# EAGLE library part MSP430G2553IRHB32R (library MSP430fr24333)
MSP430G2x53, MSP430G2x13 Mixed Signal Microcontroller Source: Datasheet <http://www.ti.com/lit/gpn/msp430g2553>
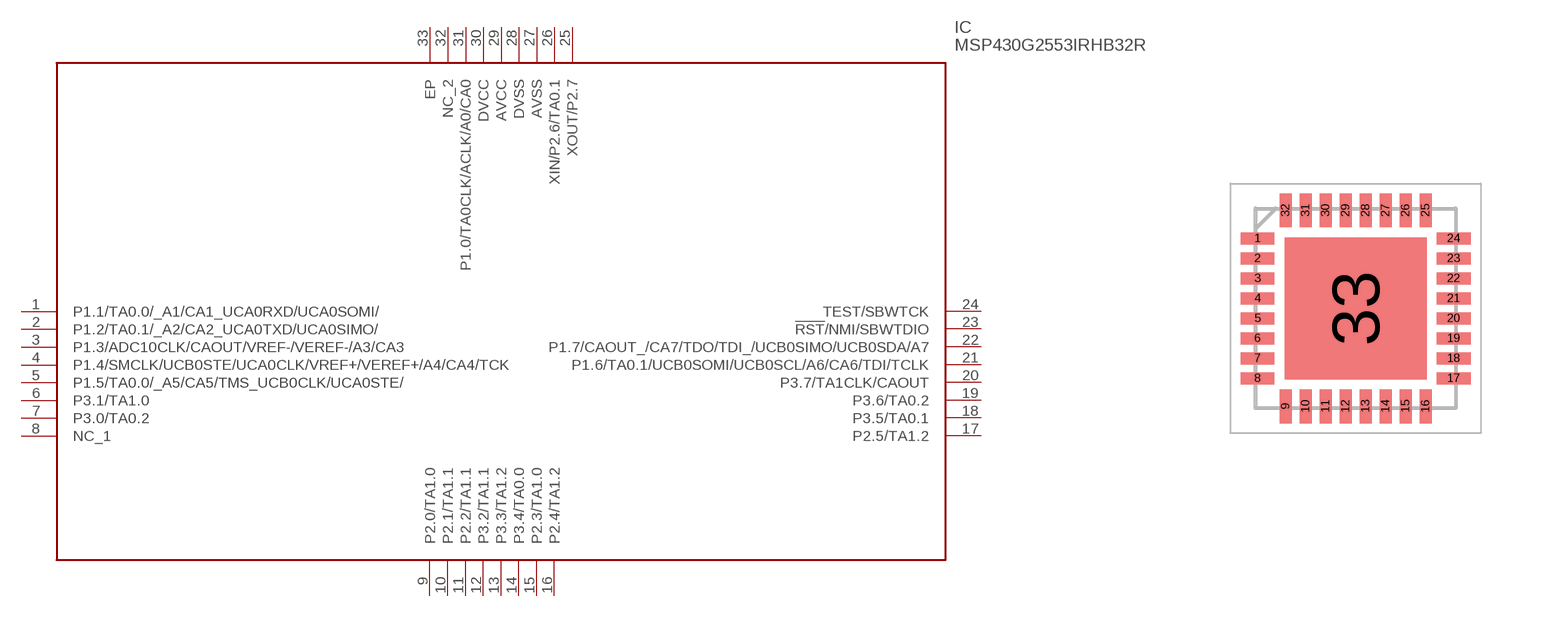
[diagram p10: symbol with the pads of QFN50P500X500X100-33N; footprint QFN50P500X500X100-33N]

Designator prefix IC

## MSP430G2553IRHB32R (DESCRIPTION: MSP430G2x53, MSP430G2x13 Mixed Signal Microcontroller; HEIGHT: 1mm; MANUFACTURER_NAME: Texas Instruments; MANUFACTURER_PART_NUMBER: MSP430G2553IRHB32R; MOUSER_PART_NUMBER: 595-P430G2553IRHB32R; MOUSER_PRICE-STOCK: https://www.mouser.co.uk/ProductDetail/Texas-Instruments/MSP430G2553IRHB32R?qs=cBe3DO7yhR4oWYgkcQqYQA%3D%3D)  [QFN50P500X500X100-33N]
1  P1.1/TA0.0/_A1/CA1_UCA0RXD/UCA0SOMI/
2  P1.2/TA0.1/_A2/CA2_UCA0TXD/UCA0SIMO/
3  P1.3/ADC10CLK/CAOUT/VREF-/VEREF-/A3/CA3
4  P1.4/SMCLK/UCB0STE/UCA0CLK/VREF+/VEREF+/A4/CA4/TCK
5  P1.5/TA0.0/_A5/CA5/TMS_UCB0CLK/UCA0STE/
6  P3.1/TA1.0
7  P3.0/TA0.2
8  NC_1
9  P2.0/TA1.0
10  P2.1/TA1.1
11  P2.2/TA1.1
12  P3.2/TA1.1
13  P3.3/TA1.2
14  P3.4/TA0.0
15  P2.3/TA1.0
16  P2.4/TA1.2
17  P2.5/TA1.2
18  P3.5/TA0.1
19  P3.6/TA0.2
20  P3.7/TA1CLK/CAOUT
21  P1.6/TA0.1/UCB0SOMI/UCB0SCL/A6/CA6/TDI/TCLK
22  P1.7/CAOUT_/CA7/TDO/TDI_/UCB0SIMO/UCB0SDA/A7
23  !RST!/NMI/SBWTDIO
24  TEST/SBWTCK
25  XOUT/P2.7
26  XIN/P2.6/TA0.1
27  AVSS
28  DVSS
29  AVCC
30  DVCC
31  P1.0/TA0CLK/ACLK/A0/CA0
32  NC_2
33  EP

## Footprint QFN50P500X500X100-33N (pad centres in mm)
RHB0032E
smd 0.85 x 0.3: 1 -2.45,1.75; 2 -2.45,1.25; 3 -2.45,0.75; 4 -2.45,0.25; 5 -2.45,-0.25; 6 -2.45,-0.75; 7 -2.45,-1.25; 8 -2.45,-1.75; 17 2.45,-1.75; 18 2.45,-1.25; 19 2.45,-0.75; 20 2.45,-0.25; 21 2.45,0.25; 22 2.45,0.75; 23 2.45,1.25; 24 2.45,1.75
smd 0.3 x 0.85: 9 -1.75,-2.45; 10 -1.25,-2.45; 11 -0.75,-2.45; 12 -0.25,-2.45; 13 0.25,-2.45; 14 0.75,-2.45; 15 1.25,-2.45; 16 1.75,-2.45; 25 1.75,2.45; 26 1.25,2.45; 27 0.75,2.45; 28 0.25,2.45; 29 -0.25,2.45; 30 -0.75,2.45; 31 -1.25,2.45; 32 -1.75,2.45
smd 3.55 x 3.55: 33 0,0